# Altium schematic symbol library WH-BLE103.SchLib: 1 symbol
Pins are listed as number, name and electrical type; pins without a type are passive.

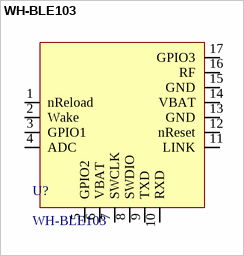
[diagram p0: symbol WH-BLE103]

## WH-BLE103
designator U?
pins: 1 nReload, 2 Wake, 3 GPIO1, 4 ADC, 5 GPIO2, 6 VBAT, 7 SWCLK, 8 SWDIO, 9 TXD, 10 RXD, 11 LINK, 12 nReset, 13 GND, 14 VBAT, 15 GND, 16 RF, 17 GPIO3